# Altium footprint library Galio-connectors.PcbLib: 64 footprints (part 1 of 4)
Each footprint in its own frame and in the unit in brackets; x right, y up, seen from the top. Pads: shape width x height; smd on the part's side, far side on the other; paste and mask are expansions set on the pad; w line width, h text height; cw(c..) or ccw(c..) is an arc to the next point about the centre after c.
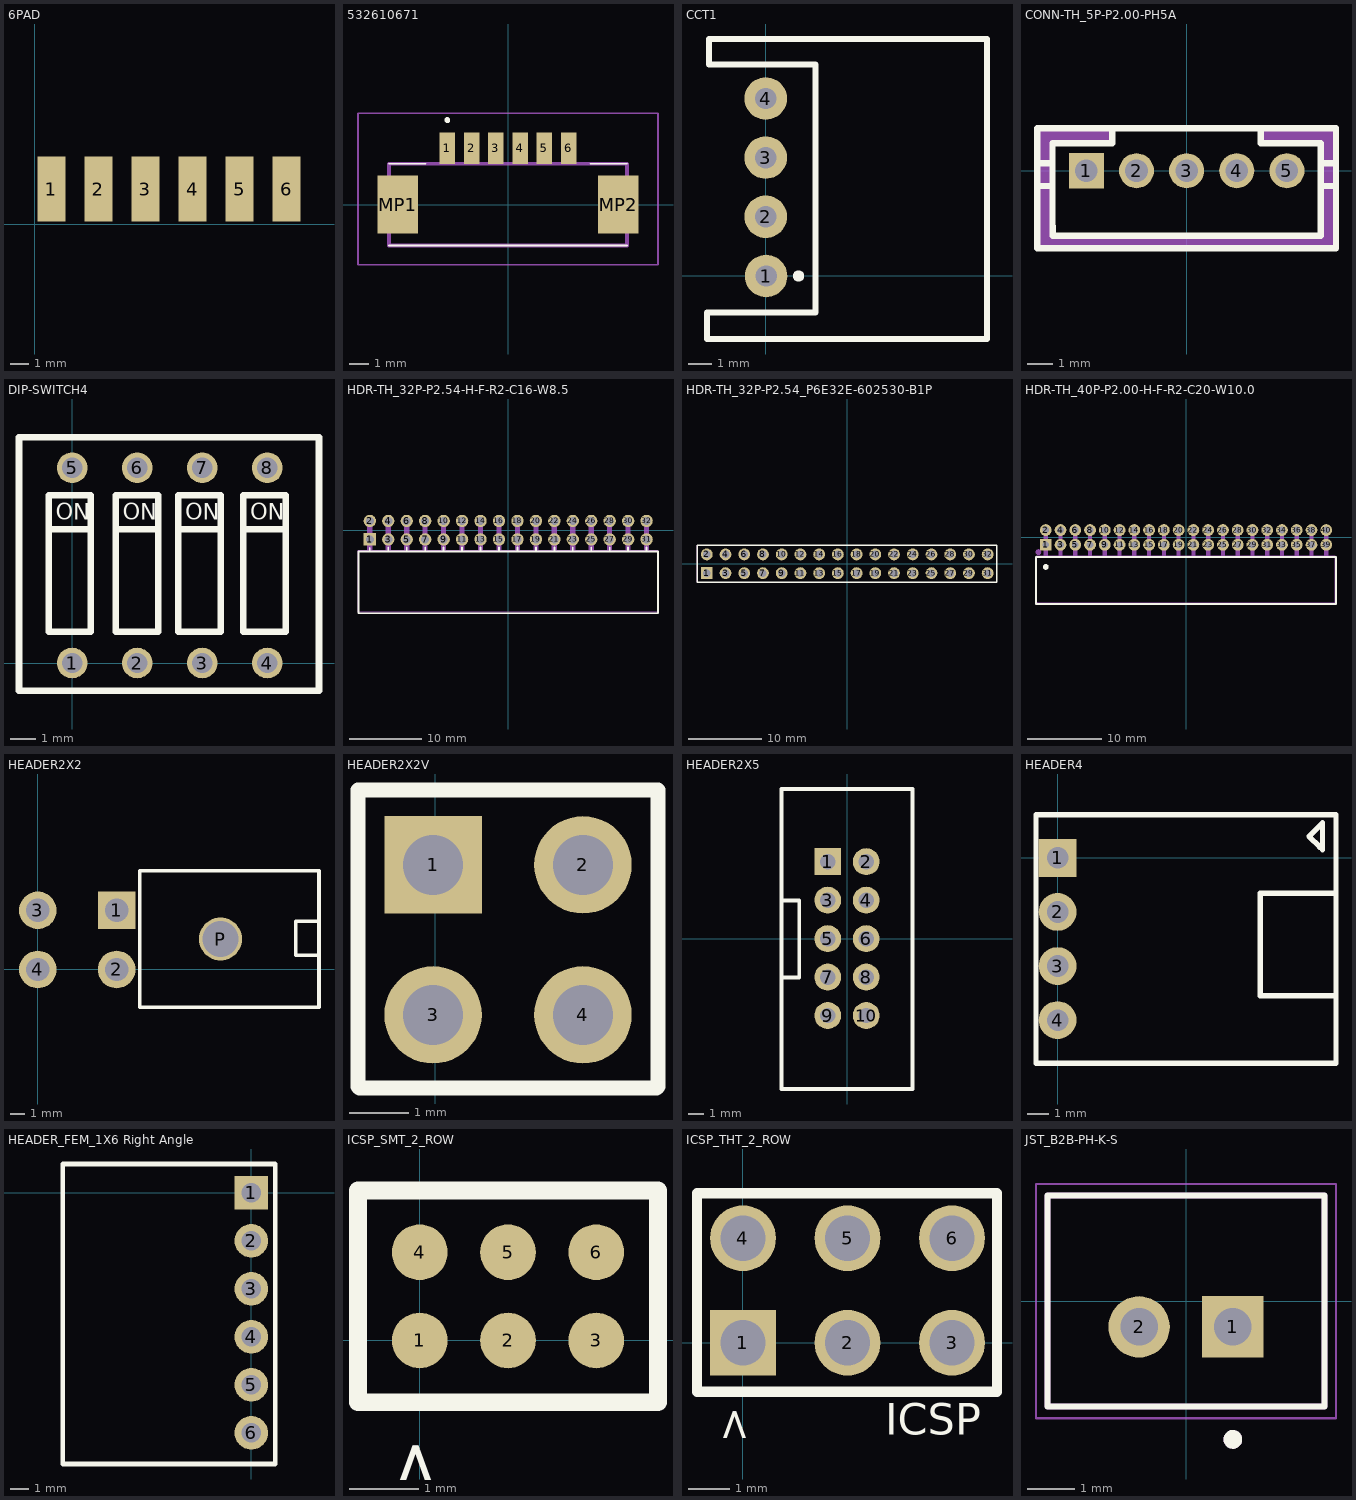
[diagram p0: the footprints below, top view; thin cyan lines are the x and y axes]

## 6PAD [mm]
pads (6):
  rect 1.5x3.5 smd: 1(0.889,1.905) 2(3.429,1.905) 3(5.969,1.905) 4(8.509,1.905) 5(11.049,1.905) 6(13.589,1.905)

## 532610671 [mm]
pads (8):
  rect 0.8x1.6 smd: 1(-3.125,2.9) 2(-1.875,2.9) 3(-0.625,2.9) 4(0.625,2.9) 5(1.875,2.9) 6(3.125,2.9)
  rect 2.1x3 smd: MP1(-5.675,0) MP2(5.675,0)
Top Overlay:
  lines w0.1: -6.125,-2.1 6.125,-2.1 -6.125,-2.1 ; -6.125,2.1 -4.25,2.1 -6.125,2.1 ; 4.25,2.1 6.125,2.1 4.25,2.1
  lines w0.2: -3.125,4.3 cw(c-3.125,4.35) -3.125,4.4 ; -3.125,4.3 ccw(c-3.125,4.35) -3.125,4.4 ; -3.125,4.3 cw(c-3.125,4.35) -3.125,4.4
Mechanical 15:
  lines w0.2: -6.125,-2.1 -6.125,2.1 6.125,2.1 6.125,-2.1 -6.125,-2.1
Mechanical 20:
  lines w0.1: -7.725,-3.1 -7.725,4.7 7.725,4.7 7.725,-3.1 -7.725,-3.1
3D body "53261-0671.stp": height 3.35, standoff -0.05, extent -6.452,-1.991 6.198,3.209

## CCT1 [mm] "cctalk connector"
pads (4):
  round 1.8 hole 0.9 unplated: 1(0.016,-0.008) 2(0,2.5) 3(0,5) 4(0,7.5)
Top Overlay:
  circle w0.254: c1.391,-0.008 r0.111
  lines w0.254: -2.476,-2.672 -2.476,-1.56 2.106,-1.56 2.106,8.934 -2.409,8.934 -2.409,10.017 9.351,10.017 9.351,-2.672 -2.476,-2.672
3D body "SW3dPS-S XH-A.STEP": height 6.1, standoff -2, extent -2.264,-2.481 9.236,9.919

## CONN-TH_5P-P2.00-PH5A [mm]
pads (5):
  rect 1.4x1.4 hole 0.9: 1(-4,0)
  round 1.4 hole 0.9: 2(-2,0) 3(0,0) 4(2,0) 5(4,0)
Top Overlay:
  lines w0.254: -5.96,-2.794 -5.96,-0.61 ; -5.958,-2.794 -5.958,-3.099 5.959,-3.099 5.959,-2.794 ; -5.35,-2.21 -5.35,-0.61 ; -5.349,-2.21 -5.349,-2.601 5.35,-2.601 5.35,-2.21 ; 2.962,1.702 -2.962,1.702 ; 5.35,-2.21 5.35,-0.61 ; 5.96,-2.794 5.96,-0.61 ; -5.96,-0.61 -5.35,-0.61 ; -5.96,-0.61 -5.96,0.305 ; -5.96,0.305 -5.35,0.305 ; -5.96,0.305 -5.96,1.702 -2.962,1.702 ; -5.35,-0.61 -5.35,0.305 ; -5.35,0.305 -5.35,1.092 -2.962,1.092 -2.962,1.702 ; 5.35,-0.61 5.96,-0.61 ; 5.35,-0.61 5.35,0.305 ; 5.35,0.305 5.96,0.305 ; 5.35,0.305 5.35,1.092 2.962,1.092 2.962,1.702 5.96,1.702 5.96,0.305 ; 5.96,-0.61 5.96,0.305
Mechanical 6:
  region: 5.96,1.702 5.96,-3.098 5.959,-3.099 -5.958,-3.099 -5.958,1.701 -5.96,1.702 -2.962,1.702 -2.962,1.092 -5.35,1.092 -5.35,-2.6 -5.349,-2.601 5.35,-2.601 5.35,1.092 2.962,1.092 2.962,1.701 2.962,1.702
Mechanical 15:
  region: -5.89,-3.1 -5.89,-3.125 -5.925,-3.16 -5.975,-3.16 -6.01,-3.125 -6.01,-3.1 -6.01,-3.075 -5.975,-3.04 -5.925,-3.04 -5.89,-3.075
  region: 4.25,-0.25 3.75,-0.25 3.75,0.25 4.25,0.25
  region: 2.25,-0.25 1.75,-0.25 1.75,0.25 2.25,0.25
  region: 0.25,-0.25 -0.25,-0.25 -0.25,0.25 0.25,0.25
  region: -1.75,-0.25 -2.25,-0.25 -2.25,0.25 -1.75,0.25
  region: -3.75,-0.25 -4.25,-0.25 -4.25,0.25 -3.75,0.25
  lines w0.051: -5.95,-3.1 -5.95,1.7 5.95,1.7 5.95,-3.1 -5.95,-3.1
3D body "JST - PH - Thru (V) - 5Pin - 2.00mm.stp": height 5.89, standoff -3.05, extent -5.93,-3.15 5.93,1.524

## DIP-SWITCH4 [mm] "Standar dip switch 4 posiciones"
pads (8):
  round 1.2 hole 0.8: 1(0,0) 2(2.54,0) 3(5.08,0) 4(7.62,0) 5(0,7.62) 6(2.54,7.62) 7(5.08,7.62) 8(7.62,7.62)
Top Overlay:
  lines w0.254: -0.921,5.228 0.731,5.228 ; 1.702,5.229 3.354,5.229 ; 4.14,5.229 5.793,5.229 ; 6.68,5.229 8.333,5.229 ; -2.075,-1.088 -2.075,8.819 9.637,8.819 9.637,-1.088 -2.075,-1.088 ; -0.921,1.218 -0.921,6.545 0.735,6.545 0.735,1.218 -0.921,1.218 ; 1.702,1.219 1.702,6.547 3.358,6.547 3.358,1.219 1.702,1.219 ; 4.14,1.219 4.14,6.547 5.796,6.547 5.796,1.219 4.14,1.219 ; 6.68,1.219 8.336,1.219 8.336,6.547 6.68,6.547 6.68,1.219
  text "ON" at 6.962,5.597 h0.64
  text "ON" at -0.639,5.596 h0.64
  text "ON" at 1.984,5.597 h0.64
  text "ON" at 4.422,5.597 h0.64
3D body "DIP_SW-4P-T.stp": height 6.6, standoff -2.7, extent -2.03,-1.14 9.65,8.76

## HDR-TH_32P-P2.54-H-F-R2-C16-W8.5 [mil]
pads (32):
  rect 66.9x66.9 hole 43.3 paste+0 mask+2: 1(-750,-50)
  round 66.9 hole 43.3 paste+0 mask+2: 2(-750,50) 3(-650,-50) 4(-650,50) 5(-550,-50) 6(-550,50) 7(-450,-50) 8(-450,50) 9(-350,-50) 10(-350,50) 11(-250,-50) 12(-250,50) 13(-150,-50) 14(-150,50) 15(-50,-50) 16(-50,50) 17(50,-50) 18(50,50) 19(150,-50) 20(150,50) 21(250,-50) 22(250,50) 23(350,-50) 24(350,50) 25(450,-50) 26(450,50) 27(550,-50) 28(550,50) 29(650,-50) 30(650,50) 31(750,-50) 32(750,50)
Top Overlay:
  lines w10: -750,-115.4 -750,-95 ; -650,-115.4 -650,-92.6 ; -550,-115.4 -550,-92.6 ; -450,-115.4 -450,-92.6 ; -350,-115.4 -350,-92.6 ; -250,-115.4 -250,-92.6 ; -150,-115.4 -150,-92.6 ; -50,-115.4 -50,-92.6 ; 50,-115.4 50,-92.6 ; 150,-115.4 150,-92.6 ; 250,-115.4 250,-92.6 ; 350,-115.4 350,-92.6 ; 450,-115.4 450,-92.6 ; 550,-115.4 550,-92.6 ; 650,-115.4 650,-92.6 ; 750,-115.4 750,-92.6 ; -811.8,-450 811.8,-450 811.8,-115.4 -811.8,-115.4 -811.8,-450
Mechanical 6:
  lines w2: -811.8,-442.9 811.8,-442.9 811.8,-108.3 -811.8,-108.3 -811.8,-442.9
Mechanical 7:
  region: 737.2,-115.6 737.2,57.7 762.4,57.7 762.4,-115.6
  region: 637.2,-115.6 637.2,57.7 662.4,57.7 662.4,-115.6
  region: 537.2,-115.6 537.2,57.7 562.4,57.7 562.4,-115.6
  region: 437.2,-115.6 437.2,57.7 462.4,57.7 462.4,-115.6
  region: 337.2,-115.6 337.2,57.7 362.4,57.7 362.4,-115.6
  region: 237.2,-115.6 237.2,57.7 262.4,57.7 262.4,-115.6
  region: 137.2,-115.6 137.2,57.7 162.4,57.7 162.4,-115.6
  region: 37.2,-115.6 37.2,57.7 62.4,57.7 62.4,-115.6
  region: -62.8,-115.6 -62.8,57.7 -37.6,57.7 -37.6,-115.6
  region: -162.8,-115.6 -162.8,57.7 -137.6,57.7 -137.6,-115.6
  region: -262.8,-115.6 -262.8,57.7 -237.6,57.7 -237.6,-115.6
  region: -362.8,-115.6 -362.8,57.7 -337.6,57.7 -337.6,-115.6
  region: -462.8,-115.6 -462.8,57.7 -437.6,57.7 -437.6,-115.6
  region: -562.8,-115.6 -562.8,57.7 -537.6,57.7 -537.6,-115.6
  region: -662.8,-115.6 -662.8,57.7 -637.6,57.7 -637.6,-115.6
  region: -762.8,-115.6 -762.8,57.7 -737.6,57.7 -737.6,-115.6
Mechanical 8:
  region: -809.4,-442.9 -809.8,-444.2 -810.8,-445.1 -812.1,-445.2 -813.4,-444.7 -814.1,-443.6 -814.1,-442.2 -813.4,-441.1 -812.1,-440.6 -810.8,-440.8 -809.8,-441.6
Mechanical 9:
  drawing of 32 lines, arcs and shapes, not listed
3D body "PPPC162LJBN-RC--3DModel-STEP-269445.STEP": height 207.87, standoff -116.14, extent -809.84,-445 809.84,60.51

## HDR-TH_32P-P2.54_P6E32E-602530-B1P [mil]
pads (32):
  rect 63x63 hole 40.2 paste+0 mask+2: 1(-750,-50)
  round 63 hole 40.2 paste+0 mask+2: 2(-750,50) 3(-650,-50) 4(-650,50) 5(-550,-50) 6(-550,50) 7(-450,-50) 8(-450,50) 9(-350,-50) 10(-350,50) 11(-250,-50) 12(-250,50) 13(-150,-50) 14(-150,50) 15(-50,-50) 16(-50,50) 17(50,-50) 18(50,50) 19(150,-50) 20(150,50) 21(250,-50) 22(250,50) 23(350,-50) 24(350,50) 25(450,-50) 26(450,50) 27(550,-50) 28(550,50) 29(650,-50) 30(650,50) 31(750,-50) 32(750,50)
Top Overlay:
  lines w7.9: -800,-98.5 -800,98.4 ; 800,-98.5 800,98.4
  lines w8: -800,-98.5 800,-98.5 ; -800,98.4 800,98.4
Mechanical 6:
  lines w2: -800,-100 -800,100 800,100 800,-100 -800,-100
Mechanical 8:
  region: -797.7,-100 -798.1,-101.3 -799.1,-102.2 -800.4,-102.4 -801.6,-101.8 -802.3,-100.7 -802.3,-99.4 -801.6,-98.3 -800.4,-97.7 -799.1,-97.9 -798.1,-98.8
Mechanical 9:
  drawing of 32 lines, arcs and shapes, not listed
3D body "TSW-116-07-L-D.stp": height 330, standoff -100, extent -800,-100 800,100

## HDR-TH_40P-P2.00-H-F-R2-C20-W10.0 [mil] "Through Hole,Right Angle,P=2mm"
pads (40):
  rect 63x63 hole 35.4 paste+0 mask+2: 1(-748,-39.35)
  round 63 hole 35.4 paste+0 mask+2: 2(-748,39.35) 3(-669.3,-39.35) 4(-669.3,39.35) 5(-590.6,-39.35) 6(-590.6,39.35) 7(-511.8,-39.35) 8(-511.8,39.35) 9(-433.1,-39.35) 10(-433.1,39.35) 11(-354.3,-39.35) 12(-354.3,39.35) 13(-275.6,-39.35) 14(-275.6,39.35) 15(-196.9,-39.35) 16(-196.9,39.35) 17(-118.1,-39.35) 18(-118.1,39.35) 19(-39.4,-39.35) 20(-39.4,39.35) 21(39.4,-39.35) 22(39.4,39.35) 23(118.1,-39.35) 24(118.1,39.35) 25(196.8,-39.35) 26(196.8,39.35) 27(275.6,-39.35) 28(275.6,39.35) 29(354.3,-39.35) 30(354.3,39.35) 31(433.1,-39.35) 32(433.1,39.35) 33(511.8,-39.35) 34(511.8,39.35) 35(590.5,-39.35) 36(590.5,39.35) 37(669.3,-39.35) 38(669.3,39.35) 39(748,-39.35) 40(748,39.35)
Top Overlay:
  lines w10: -800,-354.35 -800,-104.35 800,-104.35 800,-354.35 -800,-354.35
  lines w15.7: -755.9,-157.55 -755.5,-155.05 -754.4,-152.85 -752.7,-151.15 -750.5,-150.05 -748,-149.65 -745.6,-150.05 -743.4,-151.15 -741.7,-152.85 -740.5,-155.05 -740.2,-157.55 -740.5,-159.95 -741.7,-162.15 -743.4,-163.85 -745.6,-164.95 -748,-165.35 -750.5,-164.95 -752.7,-163.85 -754.4,-162.15 -755.5,-159.95 -755.9,-157.55
Mechanical 2:
  lines w15.7: -795.3,-78.75 -794.9,-76.35 -793.8,-74.15 -792,-72.35 -789.8,-71.25 -787.4,-70.85 -785,-71.25 -782.8,-72.35 -781,-74.15 -779.9,-76.35 -779.5,-78.75 -779.9,-81.15 -781,-83.35 -782.8,-85.15 -785,-86.25 -787.4,-86.65 -789.8,-86.25 -792,-85.15 -793.8,-83.35 -794.9,-81.15 -795.3,-78.75
Mechanical 6:
  lines w2: -795.3,-348.45 795.3,-348.45 795.3,-98.45 -795.3,-98.45 -795.3,-348.45
Mechanical 7:
  region: 757.9,-102.35 738.2,-102.35 738.2,47.25 757.9,47.25
  region: 679.1,-102.35 659.4,-102.35 659.4,47.25 679.1,47.25
  region: 600.4,-102.35 580.7,-102.35 580.7,47.25 600.4,47.25
  region: 521.7,-102.35 502,-102.35 502,47.25 521.7,47.25
  region: 442.9,-102.35 423.2,-102.35 423.2,47.25 442.9,47.25
  region: 364.2,-102.35 344.5,-102.35 344.5,47.25 364.2,47.25
  region: 285.4,-102.35 265.7,-102.35 265.7,47.25 285.4,47.25
  region: 206.7,-102.35 187,-102.35 187,47.25 206.7,47.25
  region: 128,-102.35 108.3,-102.35 108.3,47.25 128,47.25
  region: 49.2,-102.35 29.5,-102.35 29.5,47.25 49.2,47.25
  region: -29.5,-102.35 -49.2,-102.35 -49.2,47.25 -29.5,47.25
  region: -108.3,-102.35 -128,-102.35 -128,47.25 -108.3,47.25
  region: -187,-102.35 -206.7,-102.35 -206.7,47.25 -187,47.25
  region: -265.7,-102.35 -285.4,-102.35 -285.4,47.25 -265.7,47.25
  region: -344.5,-102.35 -364.2,-102.35 -364.2,47.25 -344.5,47.25
  region: -423.2,-102.35 -442.9,-102.35 -442.9,47.25 -423.2,47.25
  region: -502,-102.35 -521.7,-102.35 -521.7,47.25 -502,47.25
  region: -580.7,-102.35 -600.4,-102.35 -600.4,47.25 -580.7,47.25
  region: -659.4,-102.35 -679.1,-102.35 -679.1,47.25 -659.4,47.25
  region: -738.2,-102.35 -757.9,-102.35 -757.9,47.25 -738.2,47.25
Mechanical 8:
  region: -792.9,-348.45 -793.3,-349.75 -794.3,-350.55 -795.6,-350.75 -796.8,-350.25 -797.5,-349.15 -797.5,-347.75 -796.8,-346.65 -795.6,-346.15 -794.3,-346.25 -793.3,-347.15
Mechanical 9:
  drawing of 40 lines, arcs and shapes, not listed
3D body "SQT-120-01-L-D-RA.stp": height 158.28, standoff -89.22, extent -793.25,-345 793.25,43.59

## HEADER2X2 [mil]
pads (5):
  rect 105x105 hole 65: 1(220,165)
  round 105 hole 65: 2(220,0) 3(0,165) 4(0,0)
  round 120 hole 100 unplated: P(510,85)
Top Overlay:
  lines w10: 780,40 720,40 720,135 780,135 ; 285,-105 785,-105 785,275 285,275 285,-105
3D body "4761.stp": height 448.82, standoff -141.73, extent -18.25,-105.87 766.6,287.83

## HEADER2X2V [mil]
pads (4):
  rect 65x65 hole 40: 1(-1.45,201.37)
  round 65 hole 40: 2(98.55,201.37) 3(-1.45,101.37) 4(98.55,101.37)
Top Overlay:
  lines w10: 108.55,251.37 148.55,251.37 148.55,53.6 147.54,52.58 ; 138.55,251.37 -51.45,251.37 -51.45,53.56 -50.48,52.58 147.54,52.58 ; 147.84,52.88 147.54,52.58
3D body "12536.stp": height 338.35, standoff -126.22, extent -50.27,51.24 146.58,251.24

## HEADER2X5 [mil] "IDC Header receptable"
pads (10):
  rect 70x70 hole 40: 1(-50,200)
  round 70 hole 40: 2(50,200) 3(-50,100) 4(50,100) 5(-50,0) 6(50,0) 7(-50,-100) 8(50,-100) 9(-50,-200) 10(50,-200)
Top Overlay:
  lines w10: -170,-101 -124,-101 -124,99 -170,99 ; -170,-391 -170,389 170,389 170,-391 -170,-391
3D body "header5x2v.STEP": height 374.02, standoff -98.43, extent -177.36,-400.07 180.91,399.93

## HEADER4 [mil]
pads (4):
  rect 70x70 hole 40: 1(0,0)
  round 70 hole 40: 2(0,-100) 3(0,-200) 4(0,-300)
Top Overlay:
  lines w10: 485,20 465,40 490,65 490,15 ; 515,-255 375,-255 375,-65 515,-65 ; -40,-380 -40,-280 -40,80 515,80 515,-280 515,-380 -40,-380
3D body "31504.stp": height 278.11, standoff -126.89, extent -37.78,-400.84 497.22,99.16

## HEADER_FEM_1X6 Right Angle [mil]
pads (6):
  rect 70x70 hole 40: 1(0,0)
  round 70 hole 40: 2(0,-100) 3(0,-200) 4(0,-300) 5(0,-400) 6(0,-500)
Top Overlay:
  lines w10: -393,-565 -393,60 50,60 50,-565 -393,-565
3D body "H254_90deg_6pin.STEP": height 101.18, standoff -140.43, extent -394.71,-550 12.82,50

## ICSP_SMT_2_ROW [mm] "ISCP 1.27mm 2 row"
pads (6):
  round 0.8 smd: 1(0,0) 2(1.27,0) 3(2.54,0) 4(0,1.27) 5(1.27,1.27) 6(2.54,1.27)
Top Overlay:
  lines w0.254: -0.889,-0.889 -0.889,2.159 3.429,2.159 3.429,-0.889 -0.889,-0.889
  text "<" at -0.381,-1.397 h0.76

## ICSP_THT_2_ROW [mm] "ISCP"
pads (6):
  rect 1.6x1.6 hole 1.1: 1(0,0)
  round 1.6 hole 1.1: 2(2.54,0) 3(5.08,0) 4(0,2.54) 5(2.54,2.54) 6(5.08,2.54)
Top Overlay:
  lines w0.254: -1.118,-1.194 6.172,-1.194 6.172,3.632 -1.118,3.632 -1.118,-1.194
  text "<" at -0.533,-1.549 h0.76
  text "ICSP" at 3.454,-2.235 h0.76
3D body "User Library-PLD-xx.step": height 8.4, standoff -3, extent -1.295,-1.23 6.325,3.77

## JST_B2B-PH-K-S [mm]
pads (2):
  rect 1.308x1.308 / inner round 1.308 / far side rect 1.308x1.308 hole 0.8: 1(1,-0.55)
  round 1.308 hole 0.8: 2(-1,-0.55)
Top Overlay:
  circle w0.2: c1,-2.95 r0.1
  lines w0.127: -2.95,-2.25 -2.95,2.25 2.95,2.25 2.95,-2.25 -2.95,-2.25
Mechanical 13:
  circle w0.2: c1,-2.95 r0.1
  lines w0.127: -2.95,-2.25 2.95,-2.25 2.95,2.25 -2.95,2.25 -2.95,-2.25
Mechanical 15:
  lines w0.05: -3.2,-2.5 3.2,-2.5 3.2,2.5 -3.2,2.5 -3.2,-2.5
3D body "step_temp.STEP": height 6, standoff -3.4, extent -2.95,-2.25 2.95,2.25